# Altium footprint library Final_PCBDesign_HY.PcbLib: 8 footprints
Each footprint in its own frame and in the unit in brackets; x right, y up, seen from the top. Pads: shape width x height; smd on the part's side, far side on the other; paste and mask are expansions set on the pad; w line width, h text height; cw(c..) or ccw(c..) is an arc to the next point about the centre after c.
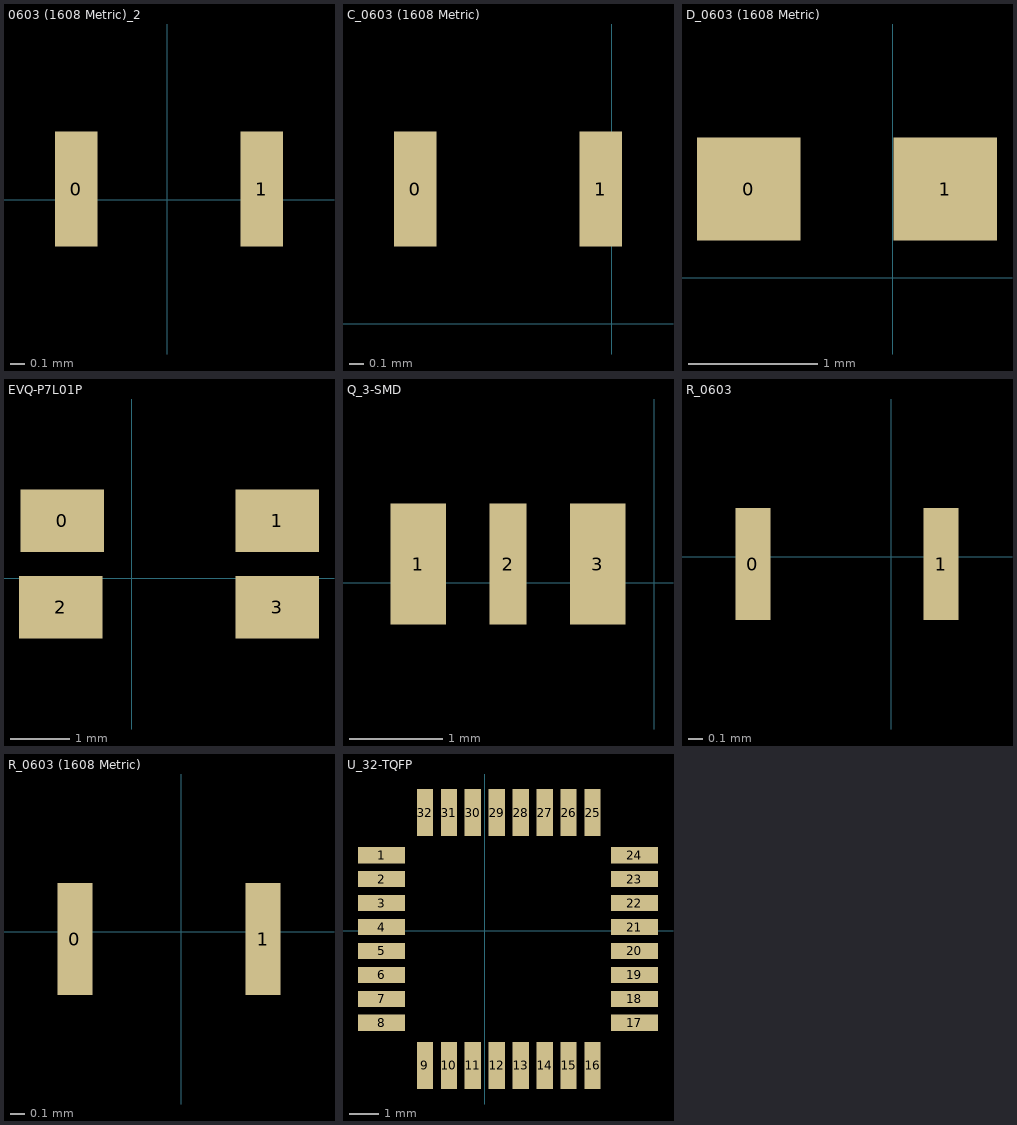
[diagram p0: the footprints below, top view; thin cyan lines are the x and y axes]

## 0603 (1608 Metric)_2 [mm]
pads (2):
  rect 0.3x0.8 smd: 0(-0.635,0.076) 1(0.66,0.076)

## C_0603 (1608 Metric) [mm]
pads (2):
  rect 0.3x0.8 smd: 0(-1.372,0.94) 1(-0.076,0.94)

## D_0603 (1608 Metric) [mm]
pads (2):
  rect 0.8x0.8 smd: 0(-1.118,0.686) 1(0.406,0.686)

## EVQ-P7L01P [mm]
pads (4):
  rect 1.4x1.05 smd: 0(-1.168,0.965) 1(2.438,0.965) 2(-1.194,-0.483) 3(2.438,-0.483)

## Q_3-SMD [mm]
pads (3):
  rect 0.6x1.3 smd: 1(-2.54,0.203) 3(-0.61,0.203)
  rect 0.4x1.3 smd: 2(-1.575,0.203)

## R_0603 [mm]
pads (2):
  rect 0.25x0.8 smd: 0(-0.991,-0.051) 1(0.356,-0.051)

## R_0603 (1608 Metric) [mm]
pads (2):
  rect 0.25x0.8 smd: 0(-0.762,-0.051) 1(0.584,-0.051)

## U_32-TQFP [mm]
pads (32):
  rect 1.6x0.55 smd: 1(-3.505,2.565) 2(-3.505,1.753) 3(-3.505,0.94) 4(-3.505,0.127) 5(-3.505,-0.686) 6(-3.505,-1.499) 7(-3.505,-2.311) 8(-3.505,-3.124) 17(5.08,-3.124) 18(5.08,-2.311) 19(5.08,-1.499) 20(5.08,-0.686) 21(5.08,0.127) 22(5.08,0.94) 23(5.08,1.753) 24(5.08,2.565)
  rect 0.55x1.6 smd: 9(-2.032,-4.572) 10(-1.219,-4.572) 11(-0.406,-4.572) 12(0.406,-4.572) 13(1.219,-4.572) 14(2.032,-4.572) 15(2.845,-4.572) 16(3.658,-4.572) 25(3.658,4.013) 26(2.845,4.013) 27(2.032,4.013) 28(1.219,4.013) 29(0.406,4.013) 30(-0.406,4.013) 31(-1.219,4.013) 32(-2.032,4.013)